# EAGLE library part ATTINY44 (library myFab)
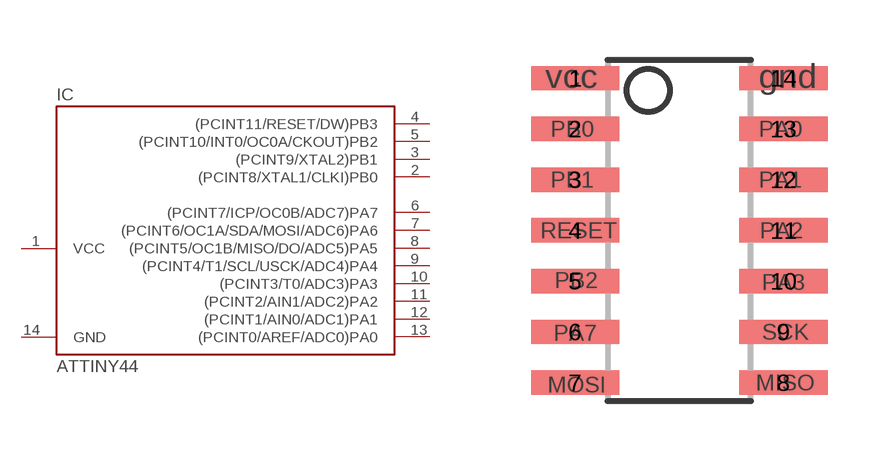
[diagram p9: symbol with the pads of ATTINY44; footprint ATTINY44]

Designator prefix IC

## ATTINY44-SSU  [ATTINY44]
1  VCC  pwr
2  (PCINT8/XTAL1/CLKI)PB0
3  (PCINT9/XTAL2)PB1
4  (PCINT11/RESET/DW)PB3
5  (PCINT10/INT0/OC0A/CKOUT)PB2
6  (PCINT7/ICP/OC0B/ADC7)PA7
7  (PCINT6/OC1A/SDA/MOSI/ADC6)PA6
8  (PCINT5/OC1B/MISO/DO/ADC5)PA5
9  (PCINT4/T1/SCL/USCK/ADC4)PA4
10  (PCINT3/T0/ADC3)PA3
11  (PCINT2/AIN1/ADC2)PA2
12  (PCINT1/AIN0/ADC1)PA1
13  (PCINT0/AREF/ADC0)PA0
14  GND  pwr

## Footprint ATTINY44 (pad centres in mm)
Small Outline Package
smd 2.21 x 0.61: 1 -2.603,3.81; 2 -2.603,2.54; 3 -2.603,1.27; 4 -2.603,0; 5 -2.603,-1.27; 6 -2.603,-2.54; 7 -2.603,-3.81; 8 2.603,-3.81; 9 2.603,-2.54; 10 2.603,-1.27; 11 2.603,0; 12 2.603,1.27; 13 2.603,2.54; 14 2.603,3.81